# Altium footprint library PSU.PcbLib: 12 footprints
Each footprint in its own frame and in the unit in brackets; x right, y up, seen from the top. Pads: shape width x height; smd on the part's side, far side on the other; paste and mask are expansions set on the pad; w line width, h text height; cw(c..) or ccw(c..) is an arc to the next point about the centre after c.
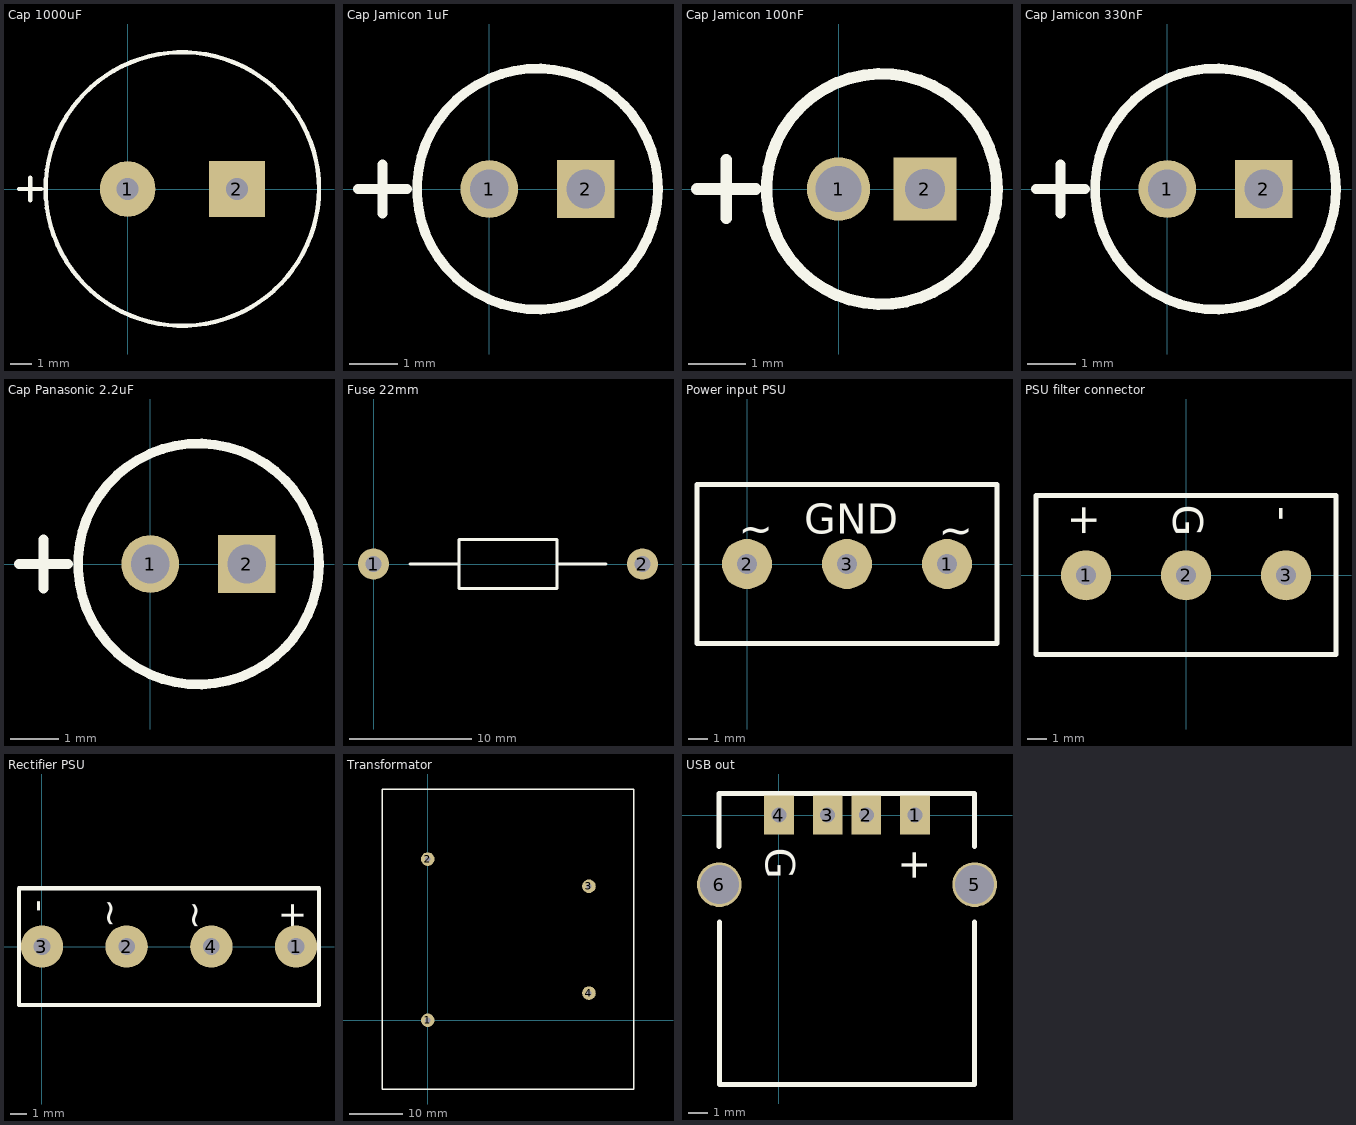
[diagram p0: the footprints below, top view; thin cyan lines are the x and y axes]

## Cap 1000uF [mm]
pads (2):
  round 2.54 hole 1: 1(0,0)
  rect 2.54x2.54 hole 1: 2(5,0)
Top Overlay:
  circle w0.2: c2.5,0 r6.25
  lines w0.2: -4.966,0 -3.95,0 ; -4.458,-0.508 -4.458,0.508

## Cap Jamicon 1uF [mm]
pads (2):
  round 1.2 hole 0.8: 1(0,0)
  rect 1.2x1.2 hole 0.8: 2(2,0)
Top Overlay:
  circle w0.2: c1,0 r2.5
  lines w0.2: -2.723,0 -1.707,0 ; -2.215,-0.508 -2.215,0.508

## Cap Jamicon 100nF [mm]
pads (2):
  round 1.1 hole 0.8: 1(0,0)
  rect 1.1x1.1 hole 0.7: 2(1.5,0)
Top Overlay:
  circle w0.2: c0.75,0 r2
  lines w0.2: -2.457,0 -1.441,0 ; -1.949,-0.508 -1.949,0.508

## Cap Jamicon 330nF [mm]
pads (2):
  round 1.2 hole 0.8: 1(0,0)
  rect 1.2x1.2 hole 0.8: 2(2,0)
Top Overlay:
  circle w0.2: c1,0 r2.5
  lines w0.2: -2.723,0 -1.707,0 ; -2.215,-0.508 -2.215,0.508

## Cap Panasonic 2.2uF [mm]
pads (2):
  round 1.2 hole 0.8: 1(0,0)
  rect 1.2x1.2 hole 0.8: 2(2,0)
Top Overlay:
  circle w0.2: c1,0 r2.5
  lines w0.2: -2.723,0 -1.707,0 ; -2.215,-0.508 -2.215,0.508

## Fuse 22mm [mm]
height 13.5
pads (2):
  round 2.54 hole 1.3: 1(0,0) 2(22,0)
Top Overlay:
  lines w0.254: 3,0 7,0 ; 15,0 19,0 ; 7,-2 7,2 15,2 15,-2 7,-2

## PCBComponent_1 [mil]

## Power input PSU [mm]
pads (3):
  round 2.54 hole 1: 1(10.16,0) 2(0,0) 3(5.08,0)
Top Overlay:
  lines w0.254: -2.54,-4.03 -2.54,4.03 12.7,4.03 12.7,-4.03 -2.54,-4.03
  text "~" at -0.43,1.05 h1.52
  text "GND" at 2.92,1.54 h1.52
  text "~" at 9.75,0.98 h1.52

## PSU filter connector [mm]
pads (3):
  round 2.54 hole 1: 1(-5.08,0) 2(0,0) 3(5.08,0)
Top Overlay:
  lines w0.254: -7.62,-4.03 7.62,-4.03 7.62,0 7.62,4.05 -7.62,4.05 -7.62,0 -7.62,-4.03
  text "+" at -5.84,3.66 h1.52
  text "G" at -0.66,3.59 h1.52
  text "-" at 4.26,3.52 h1.52

## Rectifier PSU [mm] "Rectifier for Resonator PSU"
height 15.5
pads (4):
  round 2.54 hole 1: 1(15.24,0) 2(5.08,0) 3(0,0) 4(10.16,0)
Top Overlay:
  lines w0.254: -1.38,-3.5 16.62,-3.5 16.62,0 16.62,3.5 -1.38,3.5 -1.38,0 -1.38,-3.5
  text "~" at 8.54,2.75 h1.52
  text "+" at 14.38,2.76 h1.52
  text "~" at 3.43,2.88 h1.52
  text "-" at -0.75,2.81 h1.52

## Transformator [mil]
pads (4):
  round 100 hole 39.37: 1(0,0) 2(0,1185) 3(1185,985) 4(1185,200)
Top Overlay:
  lines w10: -335,-505 -335,1700 1515,1700 1515,-505 -335,-505

## USB out [mm]
pads (6):
  rect 1.524x2 hole 0.762: 1(7,0) 2(4.5,0) 3(2.5,0) 4(0,0)
  round 2.3 hole 2: 5(10.07,-3.58) 6(-3.07,-3.58)
Top Overlay:
  lines w0.254: -3.08,-1.61 -3.08,1.1 -3.07,1.1 10.07,1.1 10.07,-1.61 ; -3.07,-13.83 -3.07,-13.86 ; -3.07,-5.5 -3.07,-13.86 ; 10.07,-5.5 10.07,-13.86 -3.07,-13.86 ; 10.07,-3.58 10.15,-3.66
  text "G" at -0.69,-1.69 h1.52
  text "+" at 6.31,-1.72 h1.52